# Altium footprint library CommonPcb.PcbLib: 194 footprints (part 12 of 13)
Each footprint in its own frame and in the unit in brackets; x right, y up, seen from the top. Pads: shape width x height; smd on the part's side, far side on the other; paste and mask are expansions set on the pad; w line width, h text height; cw(c..) or ccw(c..) is an arc to the next point about the centre after c.
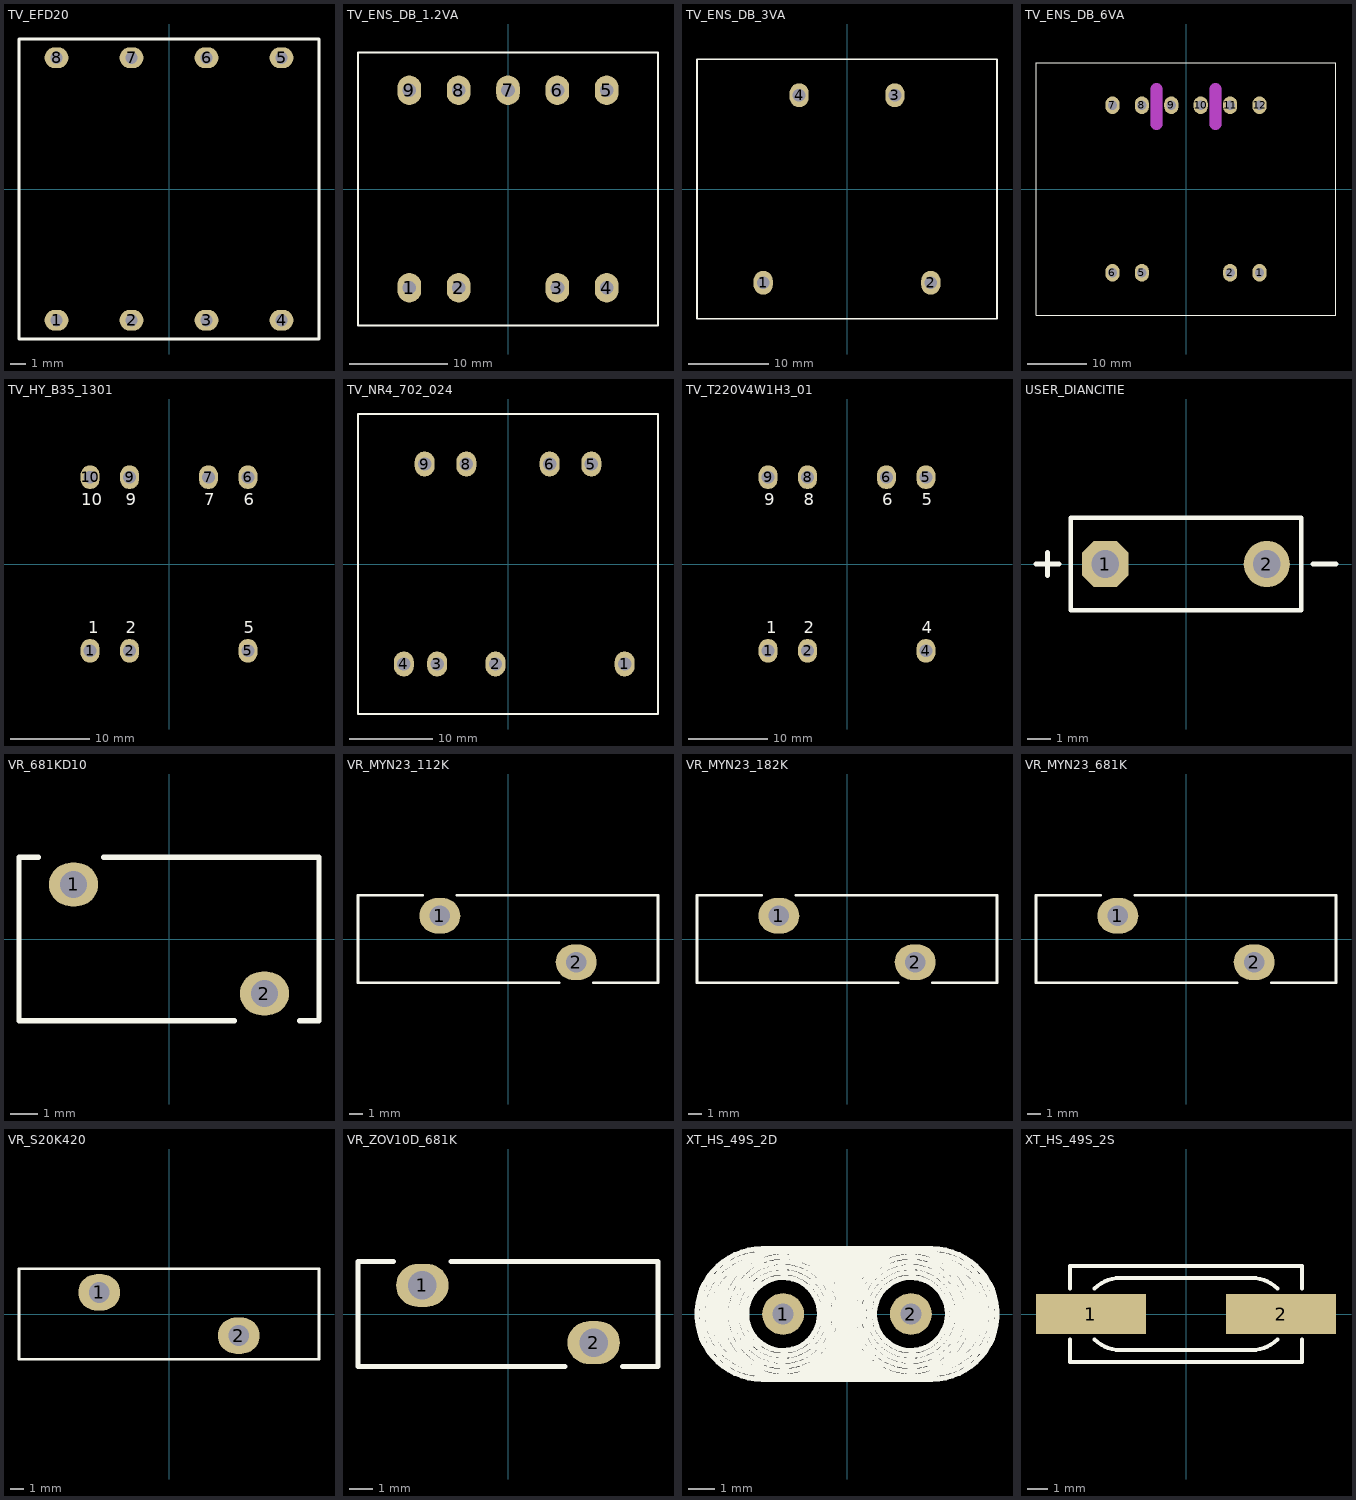
[diagram p11: the footprints below, top view; thin cyan lines are the x and y axes]

## TV_EFD20 [mm] "TV_EFD20"
height 10.5
pads (8):
  oval 1.6x1.4 hole 0.8 mask+0.1: 1(-7.5,-8.75) 2(-2.5,-8.75) 3(2.5,-8.75) 4(7.5,-8.75) 5(7.5,8.75) 6(2.5,8.75) 7(-2.5,8.75) 8(-7.5,8.75)
Top Overlay:
  lines w0.2: -10,-10 -10,10 10,10 10,-10 -10,-10
3D body: height 10.5, standoff 0, extent -9.999,-9.999 9.999,9.999

## TV_ENS_DB_1.2VA [mm] "TV_ENS_DB_1.2VA"
pads (9):
  oval 2.4x3 hole 1.4 mask+0.1: 1(-10,-10) 2(-5,-10) 3(5,-10) 4(10,-10) 5(10,10) 6(5,10) 7(0,10) 8(-5,10) 9(-10,10)
Top Overlay:
  lines w0.2: -15.2,-13.85 -15.2,13.85 15.2,13.85 15.2,-13.85 -15.2,-13.85
Bottom Overlay:
  lines w0.2: -10,-8 -10,-5.5 cw(c-7.5,-5.5) -5,-5.5 cw(c-2.5,-5.5) 0,-5.5 cw(c2.5,-5.5) 5,-5.5 cw(c7.5,-5.5) 10,-5.5 10,-8 ; -5,8 -5,5.5 ccw(c-2.5,5.5) 0,5.5 ccw(c2.5,5.5) 5,5.5 5,8
3D body: height 0, standoff 0, extent -15.2,-13.85 15.2,13.85

## TV_ENS_DB_3VA [mm] "TV_ENS_DB_3VA"
pads (4):
  oval 2.4x3 hole 1.6 mask+0.1: 1(-10.5,-11.75) 2(10.5,-11.75) 3(6,11.75) 4(-6,11.75)
Top Overlay:
  lines w0.2: -18.8,-16.25 -18.8,16.25 18.8,16.25 18.8,-16.25 -18.8,-16.25
Bottom Overlay:
  lines w0.2: -10,-9 -10,-6.5 cw(c-7.5,-6.5) -5,-6.5 cw(c-2.5,-6.5) 0,-6.5 cw(c2.5,-6.5) 5,-6.5 cw(c7.5,-6.5) 10,-6.5 10,-9 ; -5,9 -5,6.5 ccw(c-2.5,6.5) 0,6.5 ccw(c2.5,6.5) 5,6.5 5,9
3D body: height 0, standoff 0, extent -18.8,-16.25 18.8,16.25

## TV_ENS_DB_6VA [mm] "TV_ENS_DB_6VA"
pads (10):
  oval 2.4x3 hole 1.6 mask+0.1: 1(12.5,-14.25) 2(7.5,-14.25) 5(-7.5,-14.25) 6(-12.5,-14.25) 7(-12.5,14.25) 8(-7.5,14.25) 9(-2.5,14.25) 10(2.5,14.25) 11(7.5,14.25) 12(12.5,14.25)
Top Overlay:
  lines w0.2: -25.5,-21.5 -25.5,21.5 25.5,21.5 25.5,-21.5 -25.5,-21.5
Bottom Overlay:
  lines w0.2: -12.5,-9 -12.5,-6.5 cw(c-10,-6.5) -7.5,-6.5 cw(c-5,-6.5) -2.5,-6.5 cw(c0,-6.5) 2.5,-6.5 cw(c5,-6.5) 7.5,-6.5 cw(c10,-6.5) 12.5,-6.5 12.5,-9 ; -12.5,9 -12.5,6.5 ccw(c-11.25,6.5) -10,6.5 ccw(c-8.75,6.5) -7.5,6.5 -7.5,9 ; -2.5,9 -2.5,6.5 ccw(c-1.25,6.5) 0,6.5 ccw(c1.25,6.5) 2.5,6.5 2.5,9 ; 7.5,9 7.5,6.5 ccw(c8.75,6.5) 10,6.5 ccw(c11.25,6.5) 12.5,6.5 12.5,9
  text "9V" at 11.5,2.5 h1.52
  text "12V" at 2,2.5 h1.52
  text "12V" at -8,2.5 h1.52
Keep-Out Layer:
  lines w2: -5,11 -5,17 ; 5,11 5,17
Mechanical 1:
  lines w2: -5,11 -5,17 ; 5,11 5,17
3D body: height 0, standoff 0, extent -25.5,-21.5 25.5,21.5

## TV_HY_B35_1301 [mm] "TV_HY_B35_1301"
pads (7):
  oval 2.4x3 hole 1.6 mask+0.1: 1(-10,-11) 2(-5,-11) 5(10,-11) 6(10,11) 7(5,11) 9(-5,11) 10(-10,11)
Top Overlay:
  text "6" at 9.492,7.425 h1.52
  text "2" at -5.508,-8.75 h1.52
  text "7" at 4.492,7.425 h1.52
  text "5" at 9.492,-8.75 h1.52
  text "10" at -11.143,7.425 h1.52
  text "9" at -5.508,7.425 h1.52
  text "1" at -10.254,-8.75 h1.52
Bottom Overlay:
  lines w0.2: -19,-16.25 19,-16.25 19,16.25 -19,16.25 -19,-16.25
3D body: height 0, standoff 0, extent -18.999,-16.249 18.999,16.249

## TV_NR4_702_024 [mm] "TV_NR4.702.024"
pads (8):
  oval 2.4x3 hole 1.6 mask+0.1: 1(14,-12) 2(-1.5,-12) 3(-8.5,-12) 4(-12.5,-12) 5(10,12) 6(5,12) 8(-5,12) 9(-10,12)
Top Overlay:
  lines w0.2: -18,-18 -18,18 18,18 18,-18 -18,-18
Bottom Overlay:
  text "6" at 4.5,8 h1.52
  text "1" at 13.65,-9.75 h1.52
  text "2" at -2.025,-9.75 h1.52
  text "9" at -10.5,8 h1.52
  text "3" at -9.125,-9.75 h1.52
  text "5" at 9.5,8 h1.52
  text "8" at -5.5,8 h1.52
  text "4" at -12.975,-9.725 h1.52
3D body: height 0, standoff 0, extent -17.999,-17.999 17.999,17.999

## TV_T220V4W1H3_01 [mm] "TV_T220V4W1H3_01"
pads (7):
  oval 2.4x3 hole 1.6 mask+0.1: 1(-10,-11) 2(-5,-11) 4(10,-11) 5(10,11) 6(5,11) 8(-5,11) 9(-10,11)
Top Overlay:
  text "1" at -10.254,-8.75 h1.52
  text "9" at -10.508,7.425 h1.52
  text "5" at 9.492,7.425 h1.52
  text "4" at 9.492,-8.75 h1.52
  text "8" at -5.508,7.425 h1.52
  text "2" at -5.508,-8.75 h1.52
  text "6" at 4.492,7.425 h1.52
Bottom Overlay:
  lines w0.2: -19,-16.25 -19,16.25 19,16.25 19,-16.25 -19,-16.25
3D body: height 0, standoff 0, extent -18.999,-16.249 18.999,16.249

## USER_DIANCITIE [mm]
pads (2):
  oct 2x2 hole 1.2 mask+0.1: 1(-3.5,0)
  round 2 hole 1.2 mask+0.1: 2(3.5,0)
Top Overlay:
  lines w0.2: -6.5,0 -5.5,0 ; -6,-0.5 -6,0.5 ; 5.5,0 6.5,0 ; -5,-2 -5,2 5,2 5,-2 -5,-2
3D body: height 0, standoff 0, extent -5,-2 5,2

## VR_681KD10 [mm] "Varistor"
height 14
pads (2):
  oval 1.8x1.6 hole 1 mask+0.1: 1(-3.5,2) 2(3.5,-2)
Top Overlay:
  lines w0.2: -4.8,3 -5.5,3 -5.5,-3 2.4,-3 ; -2.4,3 5.5,3 5.5,-3 4.8,-3
3D body: height 0, standoff 0, extent -5.5,-3 5.5,3

## VR_MYN23_112K [mm] "Varistor"
pads (2):
  oval 3x2.6 hole 1.5 mask+0.1: 1(-5,1.7) 2(5,-1.7)
Top Overlay:
  lines w0.2: -10.999,3.199 -6.25,3.199 ; -11,3.2 -11,-3.2 3.75,-3.2 ; -3.75,3.2 10.999,3.2 11,-3.2 ; 6.25,-3.199 10.999,-3.199
3D body: height 0, standoff 0, extent -10.999,-3.199 10.999,3.199

## VR_MYN23_182K [mm] "Varistor"
pads (2):
  oval 3x2.6 hole 1.5 mask+0.1: 1(-5,1.7) 2(5,-1.7)
Top Overlay:
  lines w0.2: -10.999,3.199 -6.25,3.199 ; -11,3.2 -11,-3.2 3.75,-3.2 ; -3.75,3.2 10.999,3.2 11,-3.2 ; 6.25,-3.199 10.999,-3.199
3D body: height 0, standoff 0, extent -10.999,-3.199 10.999,3.199

## VR_MYN23_681K [mm] "Varistor"
pads (2):
  oval 3x2.6 hole 1.5 mask+0.1: 1(-5,1.7) 2(5,-1.7)
Top Overlay:
  lines w0.2: -10.999,3.199 -6.25,3.199 ; -11,3.2 -11,-3.2 3.75,-3.2 ; -3.75,3.2 10.999,3.2 11,-3.2 ; 6.25,-3.199 10.999,-3.199
3D body: height 0, standoff 0, extent -10.999,-3.199 10.999,3.199

## VR_S20K420 [mm] "Varistor"
pads (2):
  oval 3x2.6 hole 1.5 mask+0.1: 1(-5,1.55) 2(5,-1.55)
Top Overlay:
  lines w0.2: -10.75,-3.25 10.75,-3.25 10.75,3.25 -10.75,3.25 -10.75,-3.25
3D body: height 0, standoff 0, extent -10.749,-3.249 10.749,3.249

## VR_ZOV10D_681K [mm] "Varistor"
pads (2):
  oval 2.2x1.8 hole 1.2 mask+0.1: 1(-3.6,1.2) 2(3.6,-1.2)
Top Overlay:
  lines w0.2: -4.8,2.2 -6.3,2.2 -6.3,-2.2 2.4,-2.2 ; -2.4,2.2 6.3,2.2 6.3,-2.2 4.8,-2.2
3D body: height 0, standoff 0, extent -6.3,-2.2 6.3,2.2

## XT_HS_49S_2D [mm] "DIP Quartz Crystals"
pads (2):
  round 1.6 hole 0.8 mask+0.1: 1(-2.45,0) 2(2.45,0)
Top Overlay:
  circle w0.2: c2.45,0 r1.6
  circle w0.2: c2.45,0 r1.8
  circle w0.2: c2.45,0 r2
  circle w0.2: c2.45,0 r2.5
  circle w0.2: c2.45,0 r1.4
  circle w0.2: c2.45,0 r2.2
  circle w0.2: c2.45,0 r2.4
  circle w0.2: c-2.45,0 r2.4
  circle w0.2: c-2.45,0 r2.2
  circle w0.2: c-2.45,0 r1.4
  circle w0.2: c-2.45,0 r2.5
  circle w0.2: c-2.45,0 r2
  circle w0.2: c-2.45,0 r1.8
  circle w0.2: c-2.45,0 r1.6
  lines w0.2: -3.25,-2.3 cw(c-3.25,0) -3.25,2.3 ; -3.25,-2.1 cw(c-3.25,0) -3.25,2.1 ; -3.25,-1.9 cw(c-3.25,0) -3.25,1.9 ; 0.2,-0.9 -0.6,-0.9 -0.6,-1.1 0.5,-1.1 0.5,-1.3 -0.7,-1.3 -0.7,-1.5 0.9,-1.5 0.9,-1.7 -1.3,-1.7 -1.3,-1.9 1.3,-1.9 1.3,-2.1 -1.7,-2.1 -1.7,-2.3 1.7,-2.3 ; 0.3,0.9 -0.4,0.9 -0.4,1.1 0.5,1.1 0.5,1.3 -0.9,1.3 -0.9,1.5 1.2,1.5 1.2,1.7 -1.3,1.7 -1.3,1.9 1.5,1.9 1.5,2.1 -2.1,2.1 -2.1,2.3 1.6,2.3 ; 3.25,-2.3 ccw(c3.25,0) 3.25,2.3 ; 3.25,-2.1 ccw(c3.25,0) 3.25,2.1 ; 3.25,-1.9 ccw(c3.25,0) 3.25,1.9 ; -3.25,-2.5 cw(c-3.25,0) -3.25,2.5 3.25,2.5 cw(c3.25,0) 3.25,-2.5 -3.25,-2.5
3D body: height 0, standoff 0, extent -5.751,-2.501 5.751,2.501

## XT_HS_49S_2S [mm] "SMD Quartz Crystals"
pads (2):
  rect 5.5x2 smd mask+0.1: 1(-4.75,0) 2(4.75,0)
Top Overlay:
  lines w0.2: -5.8,-1.273 -5.8,-2.4 5.8,-2.4 5.8,-1.273 ; -5.8,1.273 -5.8,2.4 5.8,2.4 5.8,1.273 ; -4.573,-1.273 ccw(c-3.3,0) -3.3,-1.8 3.3,-1.8 ccw(c3.3,0) 4.573,-1.273 ; -4.573,1.273 cw(c-3.3,0) -3.3,1.8 3.3,1.8 cw(c3.3,0) 4.573,1.273
3D body: height 0, standoff 0, extent -7.55,-2.425 7.55,2.4